# Altium footprint library PcbLib_ICs.PcbLib: 9 footprints
Each footprint in its own frame and in the unit in brackets; x right, y up, seen from the top. Pads: shape width x height; smd on the part's side, far side on the other; paste and mask are expansions set on the pad; w line width, h text height; cw(c..) or ccw(c..) is an arc to the next point about the centre after c.
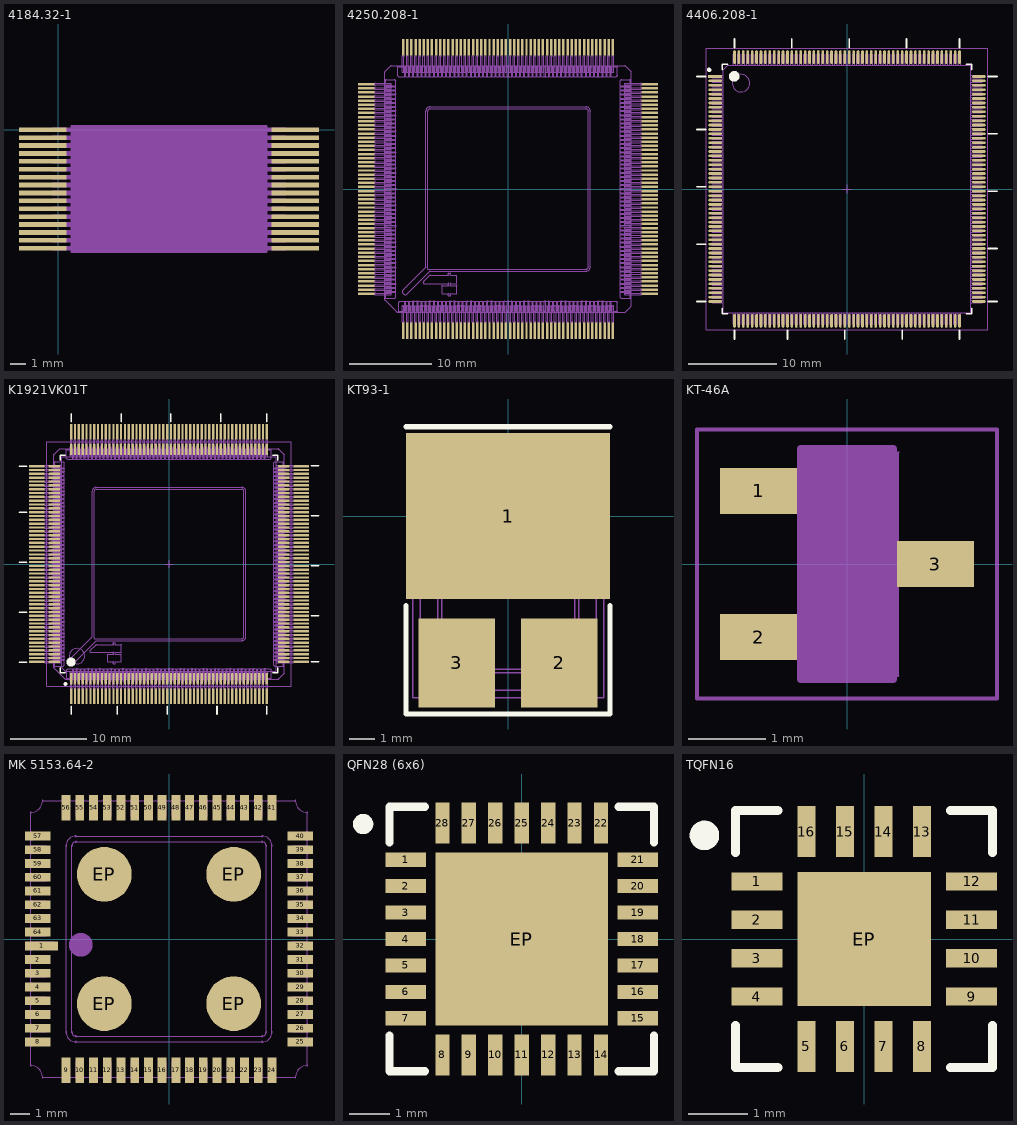
[diagram p0: the footprints below, top view; thin cyan lines are the x and y axes]

## 4184.32-1 [mm]
height 2.1
pads (32):
  rect 3x0.3 smd: 1(-1,0) 2(-1,-0.5) 3(-1,-1) 4(-1,-1.5) 5(-1,-2) 6(-1,-2.5) 7(-1,-3) 8(-1,-3.5) 9(-1,-4) 10(-1,-4.5) 11(-1,-5) 12(-1,-5.5) 13(-1,-6) 14(-1,-6.5) 15(-1,-7) 16(-1,-7.5) 17(15,-7.5) 18(15,-7) 19(15,-6.5) 20(15,-6) 21(15,-5.5) 22(15,-5) 23(15,-4.5) 24(15,-4) 25(15,-3.5) 26(15,-3) 27(15,-2.5) 28(15,-2) 29(15,-1.5) 30(15,-1) 31(15,-0.5) 32(15,0)
Mechanical 3:
  drawing of 134 lines, arcs and shapes, not listed
  text ".Designator" at 2.75,-4.75 h3
Mechanical 4:
  region: 0.8,-7.75 13.2,-7.75 13.2,0.25 0.8,0.25
  region: -0.4,-7.6 -0.4,-7.4 0.8,-7.4 0.8,-7.6
  region: -0.4,-7.1 -0.4,-6.9 0.8,-6.9 0.8,-7.1
  region: -0.4,-6.1 -0.4,-5.9 0.8,-5.9 0.8,-6.1
  region: -0.4,-6.6 -0.4,-6.4 0.8,-6.4 0.8,-6.6
  region: -0.4,-4.6 -0.4,-4.4 0.8,-4.4 0.8,-4.6
  region: -0.4,-4.1 -0.4,-3.9 0.8,-3.9 0.8,-4.1
  region: -0.4,-5.1 -0.4,-4.9 0.8,-4.9 0.8,-5.1
  region: -0.4,-5.6 -0.4,-5.4 0.8,-5.4 0.8,-5.6
  region: -0.4,-3.6 -0.4,-3.4 0.8,-3.4 0.8,-3.6
  region: -0.4,-3.1 -0.4,-2.9 0.8,-2.9 0.8,-3.1
  region: -0.4,-2.1 -0.4,-1.9 0.8,-1.9 0.8,-2.1
  region: -0.4,-2.6 -0.4,-2.4 0.8,-2.4 0.8,-2.6
  region: -0.4,-0.6 -0.4,-0.4 0.8,-0.4 0.8,-0.6
  region: -0.4,-0.1 -0.4,0.1 0.8,0.1 0.8,-0.1
  region: -0.4,-1.1 -0.4,-0.9 0.8,-0.9 0.8,-1.1
  region: -0.4,-1.6 -0.4,-1.4 0.8,-1.4 0.8,-1.6
  region: 13.2,-3.6 13.2,-3.4 14.4,-3.4 14.4,-3.6
  region: 13.2,-3.1 13.2,-2.9 14.4,-2.9 14.4,-3.1
  region: 13.2,-2.1 13.2,-1.9 14.4,-1.9 14.4,-2.1
  region: 13.2,-2.6 13.2,-2.4 14.4,-2.4 14.4,-2.6
  region: 13.2,-0.6 13.2,-0.4 14.4,-0.4 14.4,-0.6
  region: 13.2,-0.1 13.2,0.1 14.4,0.1 14.4,-0.1
  region: 13.2,-1.1 13.2,-0.9 14.4,-0.9 14.4,-1.1
  region: 13.2,-1.6 13.2,-1.4 14.4,-1.4 14.4,-1.6
  region: 13.2,-5.6 13.2,-5.4 14.4,-5.4 14.4,-5.6
  region: 13.2,-5.1 13.2,-4.9 14.4,-4.9 14.4,-5.1
  region: 13.2,-4.1 13.2,-3.9 14.4,-3.9 14.4,-4.1
  region: 13.2,-4.6 13.2,-4.4 14.4,-4.4 14.4,-4.6
  region: 13.2,-6.6 13.2,-6.4 14.4,-6.4 14.4,-6.6
  region: 13.2,-6.1 13.2,-5.9 14.4,-5.9 14.4,-6.1
  region: 13.2,-7.1 13.2,-6.9 14.4,-6.9 14.4,-7.1
  region: 13.2,-7.6 13.2,-7.4 14.4,-7.4 14.4,-7.6

## 4250.208-1 [mm]
pads (208):
  rect 0.3x2 smd: 1(-12.75,-17.25) 2(-12.25,-17.25) 3(-11.75,-17.25) 4(-11.25,-17.25) 5(-10.75,-17.25) 6(-10.25,-17.25) 7(-9.75,-17.25) 8(-9.25,-17.25) 9(-8.75,-17.25) 10(-8.25,-17.25) 11(-7.75,-17.25) 12(-7.25,-17.25) 13(-6.75,-17.25) 14(-6.25,-17.25) 15(-5.75,-17.25) 16(-5.25,-17.25) 17(-4.75,-17.25) 18(-4.25,-17.25) 19(-3.75,-17.25) 20(-3.25,-17.25) 21(-2.75,-17.25) 22(-2.25,-17.25) 23(-1.75,-17.25) 24(-1.25,-17.25) 25(-0.75,-17.25) 26(-0.25,-17.25) 27(0.25,-17.25) 28(0.75,-17.25) 29(1.25,-17.25) 30(1.75,-17.25) 31(2.25,-17.25) 32(2.75,-17.25) 33(3.25,-17.25) 34(3.75,-17.25) 35(4.25,-17.25) 36(4.75,-17.25) 37(5.25,-17.25) 38(5.75,-17.25) 39(6.25,-17.25) 40(6.75,-17.25) 41(7.25,-17.25) 42(7.75,-17.25) 43(8.25,-17.25) 44(8.75,-17.25) 45(9.25,-17.25) 46(9.75,-17.25) 47(10.25,-17.25) 48(10.75,-17.25) 49(11.25,-17.25) 50(11.75,-17.25) 51(12.25,-17.25) 52(12.75,-17.25) 105(12.75,17.25) 106(12.25,17.25) 107(11.75,17.25) 108(11.25,17.25) 109(10.75,17.25) 110(10.25,17.25) 111(9.75,17.25) 112(9.25,17.25) 113(8.75,17.25) 114(8.25,17.25) 115(7.75,17.25) 116(7.25,17.25) 117(6.75,17.25) 118(6.25,17.25) 119(5.75,17.25) 120(5.25,17.25) 121(4.75,17.25) 122(4.25,17.25) 123(3.75,17.25) 124(3.25,17.25) 125(2.75,17.25) 126(2.25,17.25) 127(1.75,17.25) 128(1.25,17.25) 129(0.75,17.25) 130(0.25,17.25) 131(-0.25,17.25) 132(-0.75,17.25) 133(-1.25,17.25) 134(-1.75,17.25) 135(-2.25,17.25) 136(-2.75,17.25) 137(-3.25,17.25) 138(-3.75,17.25) 139(-4.25,17.25) 140(-4.75,17.25) 141(-5.25,17.25) 142(-5.75,17.25) 143(-6.25,17.25) 144(-6.75,17.25) 145(-7.25,17.25) 146(-7.75,17.25) 147(-8.25,17.25) 148(-8.75,17.25) 149(-9.25,17.25) 150(-9.75,17.25) 151(-10.25,17.25) 152(-10.75,17.25) 153(-11.25,17.25) 154(-11.75,17.25) 155(-12.25,17.25) 156(-12.75,17.25)
  rect 2x0.3 smd: 53(17.25,-12.75) 54(17.25,-12.25) 55(17.25,-11.75) 56(17.25,-11.25) 57(17.25,-10.75) 58(17.25,-10.25) 59(17.25,-9.75) 60(17.25,-9.25) 61(17.25,-8.75) 62(17.25,-8.25) 63(17.25,-7.75) 64(17.25,-7.25) 65(17.25,-6.75) 66(17.25,-6.25) 67(17.25,-5.75) 68(17.25,-5.25) 69(17.25,-4.75) 70(17.25,-4.25) 71(17.25,-3.75) 72(17.25,-3.25) 73(17.25,-2.75) 74(17.25,-2.25) 75(17.25,-1.75) 76(17.25,-1.25) 77(17.25,-0.75) 78(17.25,-0.25) 79(17.25,0.25) 80(17.25,0.75) 81(17.25,1.25) 82(17.25,1.75) 83(17.25,2.25) 84(17.25,2.75) 85(17.25,3.25) 86(17.25,3.75) 87(17.25,4.25) 88(17.25,4.75) 89(17.25,5.25) 90(17.25,5.75) 91(17.25,6.25) 92(17.25,6.75) 93(17.25,7.25) 94(17.25,7.75) 95(17.25,8.25) 96(17.25,8.75) 97(17.25,9.25) 98(17.25,9.75) 99(17.25,10.25) 100(17.25,10.75) 101(17.25,11.25) 102(17.25,11.75) 103(17.25,12.25) 104(17.25,12.75) 157(-17.25,12.75) 158(-17.25,12.25) 159(-17.25,11.75) 160(-17.25,11.25) 161(-17.25,10.75) 162(-17.25,10.25) 163(-17.25,9.75) 164(-17.25,9.25) 165(-17.25,8.75) 166(-17.25,8.25) 167(-17.25,7.75) 168(-17.25,7.25) 169(-17.25,6.75) 170(-17.25,6.25) 171(-17.25,5.75) 172(-17.25,5.25) 173(-17.25,4.75) 174(-17.25,4.25) 175(-17.25,3.75) 176(-17.25,3.25) 177(-17.25,2.75) 178(-17.25,2.25) 179(-17.25,1.75) 180(-17.25,1.25) 181(-17.25,0.75) 182(-17.25,0.25) 183(-17.25,-0.25) 184(-17.25,-0.75) 185(-17.25,-1.25) 186(-17.25,-1.75) 187(-17.25,-2.25) 188(-17.25,-2.75) 189(-17.25,-3.25) 190(-17.25,-3.75) 191(-17.25,-4.25) 192(-17.25,-4.75) 193(-17.25,-5.25) 194(-17.25,-5.75) 195(-17.25,-6.25) 196(-17.25,-6.75) 197(-17.25,-7.25) 198(-17.25,-7.75) 199(-17.25,-8.25) 200(-17.25,-8.75) 201(-17.25,-9.25) 202(-17.25,-9.75) 203(-17.25,-10.25) 204(-17.25,-10.75) 205(-17.25,-11.25) 206(-17.25,-11.75) 207(-17.25,-12.25) 208(-17.25,-12.75)
Mechanical 3:
  drawing of 7029 lines, arcs and shapes, not listed

## 4406.208-1 [mm] "SQFP, 208-Leads, Body 28.00x28.00mm, Pitch 0.50mm, IPC Medium Density"
height 4.1
pads (208):
  rect 1.55x0.3 smd: 1(-14.95,12.75)
  oval 1.55x0.3 smd: 2(-14.95,12.25) 3(-14.95,11.75) 4(-14.95,11.25) 5(-14.95,10.75) 6(-14.95,10.25) 7(-14.95,9.75) 8(-14.95,9.25) 9(-14.95,8.75) 10(-14.95,8.25) 11(-14.95,7.75) 12(-14.95,7.25) 13(-14.95,6.75) 14(-14.95,6.25) 15(-14.95,5.75) 16(-14.95,5.25) 17(-14.95,4.75) 18(-14.95,4.25) 19(-14.95,3.75) 20(-14.95,3.25) 21(-14.95,2.75) 22(-14.95,2.25) 23(-14.95,1.75) 24(-14.95,1.25) 25(-14.95,0.75) 26(-14.95,0.25) 27(-14.95,-0.25) 28(-14.95,-0.75) 29(-14.95,-1.25) 30(-14.95,-1.75) 31(-14.95,-2.25) 32(-14.95,-2.75) 33(-14.95,-3.25) 34(-14.95,-3.75) 35(-14.95,-4.25) 36(-14.95,-4.75) 37(-14.95,-5.25) 38(-14.95,-5.75) 39(-14.95,-6.25) 40(-14.95,-6.75) 41(-14.95,-7.25) 42(-14.95,-7.75) 43(-14.95,-8.25) 44(-14.95,-8.75) 45(-14.95,-9.25) 46(-14.95,-9.75) 47(-14.95,-10.25) 48(-14.95,-10.75) 49(-14.95,-11.25) 50(-14.95,-11.75) 51(-14.95,-12.25) 52(-14.95,-12.75) 105(14.95,-12.75) 106(14.95,-12.25) 107(14.95,-11.75) 108(14.95,-11.25) 109(14.95,-10.75) 110(14.95,-10.25) 111(14.95,-9.75) 112(14.95,-9.25) 113(14.95,-8.75) 114(14.95,-8.25) 115(14.95,-7.75) 116(14.95,-7.25) 117(14.95,-6.75) 118(14.95,-6.25) 119(14.95,-5.75) 120(14.95,-5.25) 121(14.95,-4.75) 122(14.95,-4.25) 123(14.95,-3.75) 124(14.95,-3.25) 125(14.95,-2.75) 126(14.95,-2.25) 127(14.95,-1.75) 128(14.95,-1.25) 129(14.95,-0.75) 130(14.95,-0.25) 131(14.95,0.25) 132(14.95,0.75) 133(14.95,1.25) 134(14.95,1.75) 135(14.95,2.25) 136(14.95,2.75) 137(14.95,3.25) 138(14.95,3.75) 139(14.95,4.25) 140(14.95,4.75) 141(14.95,5.25) 142(14.95,5.75) 143(14.95,6.25) 144(14.95,6.75) 145(14.95,7.25) 146(14.95,7.75) 147(14.95,8.25) 148(14.95,8.75) 149(14.95,9.25) 150(14.95,9.75) 151(14.95,10.25) 152(14.95,10.75) 153(14.95,11.25) 154(14.95,11.75) 155(14.95,12.25) 156(14.95,12.75)
  oval 0.3x1.55 smd: 53(-12.75,-14.95) 54(-12.25,-14.95) 55(-11.75,-14.95) 56(-11.25,-14.95) 57(-10.75,-14.95) 58(-10.25,-14.95) 59(-9.75,-14.95) 60(-9.25,-14.95) 61(-8.75,-14.95) 62(-8.25,-14.95) 63(-7.75,-14.95) 64(-7.25,-14.95) 65(-6.75,-14.95) 66(-6.25,-14.95) 67(-5.75,-14.95) 68(-5.25,-14.95) 69(-4.75,-14.95) 70(-4.25,-14.95) 71(-3.75,-14.95) 72(-3.25,-14.95) 73(-2.75,-14.95) 74(-2.25,-14.95) 75(-1.75,-14.95) 76(-1.25,-14.95) 77(-0.75,-14.95) 78(-0.25,-14.95) 79(0.25,-14.95) 80(0.75,-14.95) 81(1.25,-14.95) 82(1.75,-14.95) 83(2.25,-14.95) 84(2.75,-14.95) 85(3.25,-14.95) 86(3.75,-14.95) 87(4.25,-14.95) 88(4.75,-14.95) 89(5.25,-14.95) 90(5.75,-14.95) 91(6.25,-14.95) 92(6.75,-14.95) 93(7.25,-14.95) 94(7.75,-14.95) 95(8.25,-14.95) 96(8.75,-14.95) 97(9.25,-14.95) 98(9.75,-14.95) 99(10.25,-14.95) 100(10.75,-14.95) 101(11.25,-14.95) 102(11.75,-14.95) 103(12.25,-14.95) 104(12.75,-14.95) 157(12.75,14.95) 158(12.25,14.95) 159(11.75,14.95) 160(11.25,14.95) 161(10.75,14.95) 162(10.25,14.95) 163(9.75,14.95) 164(9.25,14.95) 165(8.75,14.95) 166(8.25,14.95) 167(7.75,14.95) 168(7.25,14.95) 169(6.75,14.95) 170(6.25,14.95) 171(5.75,14.95) 172(5.25,14.95) 173(4.75,14.95) 174(4.25,14.95) 175(3.75,14.95) 176(3.25,14.95) 177(2.75,14.95) 178(2.25,14.95) 179(1.75,14.95) 180(1.25,14.95) 181(0.75,14.95) 182(0.25,14.95) 183(-0.25,14.95) 184(-0.75,14.95) 185(-1.25,14.95) 186(-1.75,14.95) 187(-2.25,14.95) 188(-2.75,14.95) 189(-3.25,14.95) 190(-3.75,14.95) 191(-4.25,14.95) 192(-4.75,14.95) 193(-5.25,14.95) 194(-5.75,14.95) 195(-6.25,14.95) 196(-6.75,14.95) 197(-7.25,14.95) 198(-7.75,14.95) 199(-8.25,14.95) 200(-8.75,14.95) 201(-9.25,14.95) 202(-9.75,14.95) 203(-10.25,14.95) 204(-10.75,14.95) 205(-11.25,14.95) 206(-11.75,14.95) 207(-12.25,14.95) 208(-12.75,14.95)
Top Overlay:
  circle w0.6: c-12.775,12.775 r0.3
  circle w0.25: c-15.625,13.5 r0.125
  lines w0.2: -17,-12.75 -16,-12.75 ; -17,-6.25 -16,-6.25 ; -17,0.25 -16,0.25 ; -17,6.75 -16,6.75 ; -17,12.75 -16,12.75 ; -14.15,-13.55 -14.15,-14.15 -13.525,-14.15 ; -14.15,13.525 -14.15,14.15 -13.55,14.15 ; -12.75,-17 -12.75,-16 ; -12.75,16 -12.75,17 ; -6.75,-17 -6.75,-16 ; -6.25,16 -6.25,17 ; -0.25,-17 -0.25,-16 ; 0.25,16 0.25,17 ; 6.25,-17 6.25,-16 ; 6.75,16 6.75,17 ; 12.75,-17 12.75,-16 ; 12.75,16 12.75,17 ; 13.525,14.15 14.15,14.15 14.15,13.55 ; 13.55,-14.15 14.15,-14.15 14.15,-13.525 ; 16,-12.75 17,-12.75 ; 16,-6.75 17,-6.75 ; 16,-0.25 17,-0.25 ; 16,6.25 17,6.25 ; 16,12.75 17,12.75
Mechanical 13:
  drawing of 5622 lines, arcs and shapes, not listed
  text ".Designator" at -3.443,-0.467 h2
Mechanical 15:
  lines w0.05: -15.95,-15.95 15.95,-15.95 15.95,15.95 -15.95,15.95 -15.95,-15.95
  lines w0.1: -0.5,0 0.5,0 ; 0,-0.5 0,0.5
3D body "SQFP50P3060X3060X410-208N.step": height 4.1, standoff 0, extent -15.3,-15.3 15.3,15.3

## K1921VK01T [mm] "SQFP, 208-Leads, Body 28.00x28.00mm, Pitch 0.50mm, IPC Medium Density"
height 4.1
pads (416):
  rect 0.3x2 smd: 1(-12.75,-17.25) 2(-12.25,-17.25) 3(-11.75,-17.25) 4(-11.25,-17.25) 5(-10.75,-17.25) 6(-10.25,-17.25) 7(-9.75,-17.25) 8(-9.25,-17.25) 9(-8.75,-17.25) 10(-8.25,-17.25) 11(-7.75,-17.25) 12(-7.25,-17.25) 13(-6.75,-17.25) 14(-6.25,-17.25) 15(-5.75,-17.25) 16(-5.25,-17.25) 17(-4.75,-17.25) 18(-4.25,-17.25) 19(-3.75,-17.25) 20(-3.25,-17.25) 21(-2.75,-17.25) 22(-2.25,-17.25) 23(-1.75,-17.25) 24(-1.25,-17.25) 25(-0.75,-17.25) 26(-0.25,-17.25) 27(0.25,-17.25) 28(0.75,-17.25) 29(1.25,-17.25) 30(1.75,-17.25) 31(2.25,-17.25) 32(2.75,-17.25) 33(3.25,-17.25) 34(3.75,-17.25) 35(4.25,-17.25) 36(4.75,-17.25) 37(5.25,-17.25) 38(5.75,-17.25) 39(6.25,-17.25) 40(6.75,-17.25) 41(7.25,-17.25) 42(7.75,-17.25) 43(8.25,-17.25) 44(8.75,-17.25) 45(9.25,-17.25) 46(9.75,-17.25) 47(10.25,-17.25) 48(10.75,-17.25) 49(11.25,-17.25) 50(11.75,-17.25) 51(12.25,-17.25) 52(12.75,-17.25) 105(12.75,17.25) 106(12.25,17.25) 107(11.75,17.25) 108(11.25,17.25) 109(10.75,17.25) 110(10.25,17.25) 111(9.75,17.25) 112(9.25,17.25) 113(8.75,17.25) 114(8.25,17.25) 115(7.75,17.25) 116(7.25,17.25) 117(6.75,17.25) 118(6.25,17.25) 119(5.75,17.25) 120(5.25,17.25) 121(4.75,17.25) 122(4.25,17.25) 123(3.75,17.25) 124(3.25,17.25) 125(2.75,17.25) 126(2.25,17.25) 127(1.75,17.25) 128(1.25,17.25) 129(0.75,17.25) 130(0.25,17.25) 131(-0.25,17.25) 132(-0.75,17.25) 133(-1.25,17.25) 134(-1.75,17.25) 135(-2.25,17.25) 136(-2.75,17.25) 137(-3.25,17.25) 138(-3.75,17.25) 139(-4.25,17.25) 140(-4.75,17.25) 141(-5.25,17.25) 142(-5.75,17.25) 143(-6.25,17.25) 144(-6.75,17.25) 145(-7.25,17.25) 146(-7.75,17.25) 147(-8.25,17.25) 148(-8.75,17.25) 149(-9.25,17.25) 150(-9.75,17.25) 151(-10.25,17.25) 152(-10.75,17.25) 153(-11.25,17.25) 154(-11.75,17.25) 155(-12.25,17.25) 156(-12.75,17.25)
  rect 0.3x1.55 smd: 1(-12.75,-14.95)
  oval 0.3x1.55 smd: 2(-12.25,-14.95) 3(-11.75,-14.95) 4(-11.25,-14.95) 5(-10.75,-14.95) 6(-10.25,-14.95) 7(-9.75,-14.95) 8(-9.25,-14.95) 9(-8.75,-14.95) 10(-8.25,-14.95) 11(-7.75,-14.95) 12(-7.25,-14.95) 13(-6.75,-14.95) 14(-6.25,-14.95) 15(-5.75,-14.95) 16(-5.25,-14.95) 17(-4.75,-14.95) 18(-4.25,-14.95) 19(-3.75,-14.95) 20(-3.25,-14.95) 21(-2.75,-14.95) 22(-2.25,-14.95) 23(-1.75,-14.95) 24(-1.25,-14.95) 25(-0.75,-14.95) 26(-0.25,-14.95) 27(0.25,-14.95) 28(0.75,-14.95) 29(1.25,-14.95) 30(1.75,-14.95) 31(2.25,-14.95) 32(2.75,-14.95) 33(3.25,-14.95) 34(3.75,-14.95) 35(4.25,-14.95) 36(4.75,-14.95) 37(5.25,-14.95) 38(5.75,-14.95) 39(6.25,-14.95) 40(6.75,-14.95) 41(7.25,-14.95) 42(7.75,-14.95) 43(8.25,-14.95) 44(8.75,-14.95) 45(9.25,-14.95) 46(9.75,-14.95) 47(10.25,-14.95) 48(10.75,-14.95) 49(11.25,-14.95) 50(11.75,-14.95) 51(12.25,-14.95) 52(12.75,-14.95) 105(12.75,14.95) 106(12.25,14.95) 107(11.75,14.95) 108(11.25,14.95) 109(10.75,14.95) 110(10.25,14.95) 111(9.75,14.95) 112(9.25,14.95) 113(8.75,14.95) 114(8.25,14.95) 115(7.75,14.95) 116(7.25,14.95) 117(6.75,14.95) 118(6.25,14.95) 119(5.75,14.95) 120(5.25,14.95) 121(4.75,14.95) 122(4.25,14.95) 123(3.75,14.95) 124(3.25,14.95) 125(2.75,14.95) 126(2.25,14.95) 127(1.75,14.95) 128(1.25,14.95) 129(0.75,14.95) 130(0.25,14.95) 131(-0.25,14.95) 132(-0.75,14.95) 133(-1.25,14.95) 134(-1.75,14.95) 135(-2.25,14.95) 136(-2.75,14.95) 137(-3.25,14.95) 138(-3.75,14.95) 139(-4.25,14.95) 140(-4.75,14.95) 141(-5.25,14.95) 142(-5.75,14.95) 143(-6.25,14.95) 144(-6.75,14.95) 145(-7.25,14.95) 146(-7.75,14.95) 147(-8.25,14.95) 148(-8.75,14.95) 149(-9.25,14.95) 150(-9.75,14.95) 151(-10.25,14.95) 152(-10.75,14.95) 153(-11.25,14.95) 154(-11.75,14.95) 155(-12.25,14.95) 156(-12.75,14.95)
  oval 1.55x0.3 smd: 53(14.95,-12.75) 54(14.95,-12.25) 55(14.95,-11.75) 56(14.95,-11.25) 57(14.95,-10.75) 58(14.95,-10.25) 59(14.95,-9.75) 60(14.95,-9.25) 61(14.95,-8.75) 62(14.95,-8.25) 63(14.95,-7.75) 64(14.95,-7.25) 65(14.95,-6.75) 66(14.95,-6.25) 67(14.95,-5.75) 68(14.95,-5.25) 69(14.95,-4.75) 70(14.95,-4.25) 71(14.95,-3.75) 72(14.95,-3.25) 73(14.95,-2.75) 74(14.95,-2.25) 75(14.95,-1.75) 76(14.95,-1.25) 77(14.95,-0.75) 78(14.95,-0.25) 79(14.95,0.25) 80(14.95,0.75) 81(14.95,1.25) 82(14.95,1.75) 83(14.95,2.25) 84(14.95,2.75) 85(14.95,3.25) 86(14.95,3.75) 87(14.95,4.25) 88(14.95,4.75) 89(14.95,5.25) 90(14.95,5.75) 91(14.95,6.25) 92(14.95,6.75) 93(14.95,7.25) 94(14.95,7.75) 95(14.95,8.25) 96(14.95,8.75) 97(14.95,9.25) 98(14.95,9.75) 99(14.95,10.25) 100(14.95,10.75) 101(14.95,11.25) 102(14.95,11.75) 103(14.95,12.25) 104(14.95,12.75) 157(-14.95,12.75) 158(-14.95,12.25) 159(-14.95,11.75) 160(-14.95,11.25) 161(-14.95,10.75) 162(-14.95,10.25) 163(-14.95,9.75) 164(-14.95,9.25) 165(-14.95,8.75) 166(-14.95,8.25) 167(-14.95,7.75) 168(-14.95,7.25) 169(-14.95,6.75) 170(-14.95,6.25) 171(-14.95,5.75) 172(-14.95,5.25) 173(-14.95,4.75) 174(-14.95,4.25) 175(-14.95,3.75) 176(-14.95,3.25) 177(-14.95,2.75) 178(-14.95,2.25) 179(-14.95,1.75) 180(-14.95,1.25) 181(-14.95,0.75) 182(-14.95,0.25) 183(-14.95,-0.25) 184(-14.95,-0.75) 185(-14.95,-1.25) 186(-14.95,-1.75) 187(-14.95,-2.25) 188(-14.95,-2.75) 189(-14.95,-3.25) 190(-14.95,-3.75) 191(-14.95,-4.25) 192(-14.95,-4.75) 193(-14.95,-5.25) 194(-14.95,-5.75) 195(-14.95,-6.25) 196(-14.95,-6.75) 197(-14.95,-7.25) 198(-14.95,-7.75) 199(-14.95,-8.25) 200(-14.95,-8.75) 201(-14.95,-9.25) 202(-14.95,-9.75) 203(-14.95,-10.25) 204(-14.95,-10.75) 205(-14.95,-11.25) 206(-14.95,-11.75) 207(-14.95,-12.25) 208(-14.95,-12.75)
  rect 2x0.3 smd: 53(17.25,-12.75) 54(17.25,-12.25) 55(17.25,-11.75) 56(17.25,-11.25) 57(17.25,-10.75) 58(17.25,-10.25) 59(17.25,-9.75) 60(17.25,-9.25) 61(17.25,-8.75) 62(17.25,-8.25) 63(17.25,-7.75) 64(17.25,-7.25) 65(17.25,-6.75) 66(17.25,-6.25) 67(17.25,-5.75) 68(17.25,-5.25) 69(17.25,-4.75) 70(17.25,-4.25) 71(17.25,-3.75) 72(17.25,-3.25) 73(17.25,-2.75) 74(17.25,-2.25) 75(17.25,-1.75) 76(17.25,-1.25) 77(17.25,-0.75) 78(17.25,-0.25) 79(17.25,0.25) 80(17.25,0.75) 81(17.25,1.25) 82(17.25,1.75) 83(17.25,2.25) 84(17.25,2.75) 85(17.25,3.25) 86(17.25,3.75) 87(17.25,4.25) 88(17.25,4.75) 89(17.25,5.25) 90(17.25,5.75) 91(17.25,6.25) 92(17.25,6.75) 93(17.25,7.25) 94(17.25,7.75) 95(17.25,8.25) 96(17.25,8.75) 97(17.25,9.25) 98(17.25,9.75) 99(17.25,10.25) 100(17.25,10.75) 101(17.25,11.25) 102(17.25,11.75) 103(17.25,12.25) 104(17.25,12.75) 157(-17.25,12.75) 158(-17.25,12.25) 159(-17.25,11.75) 160(-17.25,11.25) 161(-17.25,10.75) 162(-17.25,10.25) 163(-17.25,9.75) 164(-17.25,9.25) 165(-17.25,8.75) 166(-17.25,8.25) 167(-17.25,7.75) 168(-17.25,7.25) 169(-17.25,6.75) 170(-17.25,6.25) 171(-17.25,5.75) 172(-17.25,5.25) 173(-17.25,4.75) 174(-17.25,4.25) 175(-17.25,3.75) 176(-17.25,3.25) 177(-17.25,2.75) 178(-17.25,2.25) 179(-17.25,1.75) 180(-17.25,1.25) 181(-17.25,0.75) 182(-17.25,0.25) 183(-17.25,-0.25) 184(-17.25,-0.75) 185(-17.25,-1.25) 186(-17.25,-1.75) 187(-17.25,-2.25) 188(-17.25,-2.75) 189(-17.25,-3.25) 190(-17.25,-3.75) 191(-17.25,-4.25) 192(-17.25,-4.75) 193(-17.25,-5.25) 194(-17.25,-5.75) 195(-17.25,-6.25) 196(-17.25,-6.75) 197(-17.25,-7.25) 198(-17.25,-7.75) 199(-17.25,-8.25) 200(-17.25,-8.75) 201(-17.25,-9.25) 202(-17.25,-9.75) 203(-17.25,-10.25) 204(-17.25,-10.75) 205(-17.25,-11.25) 206(-17.25,-11.75) 207(-17.25,-12.25) 208(-17.25,-12.75)
Top Overlay:
  circle w0.6: c-12.775,-12.775 r0.3
  circle w0.25: c-13.5,-15.625 r0.125
  lines w0.2: -19.537,-12.775 -18.538,-12.775 ; -19.537,-6.275 -18.538,-6.275 ; -19.537,0.225 -18.538,0.225 ; -19.537,6.725 -18.538,6.725 ; -19.537,12.725 -18.538,12.725 ; -14.15,-13.55 -14.15,-14.15 -13.525,-14.15 ; -14.15,13.525 -14.15,14.15 -13.55,14.15 ; -12.756,18.55 -12.756,19.55 ; -12.75,-19.55 -12.75,-18.55 ; -6.75,-19.55 -6.75,-18.55 ; -6.256,18.55 -6.256,19.55 ; -0.25,-19.55 -0.25,-18.55 ; 0.244,18.55 0.244,19.55 ; 6.25,-19.55 6.25,-18.55 ; 6.744,18.55 6.744,19.55 ; 12.744,18.55 12.744,19.55 ; 12.75,-19.55 12.75,-18.55 ; 13.525,14.15 14.15,14.15 14.15,13.55 ; 13.55,-14.15 14.15,-14.15 14.15,-13.525 ; 18.525,-12.725 19.525,-12.725 ; 18.525,-6.725 19.525,-6.725 ; 18.525,-0.225 19.525,-0.225 ; 18.525,6.275 19.525,6.275 ; 18.525,12.775 19.525,12.775
Mechanical 3:
  drawing of 7029 lines, arcs and shapes, not listed
Mechanical 13:
  drawing of 5622 lines, arcs and shapes, not listed
  text ".Designator" at -3.443,-0.467 h2
Mechanical 15:
  lines w0.05: -15.95,-15.95 -15.95,15.95 15.95,15.95 15.95,-15.95 -15.95,-15.95
  lines w0.1: -0.5,0 0.5,0 ; 0,-0.5 0,0.5
3D body "SQFP50P3060X3060X410-208N.step": height 4.1, standoff 0, extent -15.3,-15.3 15.3,15.3

## KT93-1 [mm]
pads (3):
  rect 8x6.5 smd paste-10: 1(0,0)
  rect 3x3.5 smd paste-10: 2(2,-5.75) 3(-2,-5.75)
Top Overlay:
  lines w0.2: -4,-3.5 -4,-7.75 4,-7.75 4,-3.5 ; -4,3.5 4,3.5
Top Paste:
  drawing of 162 lines, arcs and shapes, not listed
Mechanical 13:
  lines w0.05: -3.736,-7.122 3.75,-7.122 3.75,2.925 -3.736,2.925 -3.736,-7.122 ; -3.441,-6.629 ccw(c-3.244,-6.629) -3.244,-6.826 3.257,-6.826 ccw(c3.257,-6.629) 3.454,-6.629 3.454,2.432 ccw(c3.257,2.432) 3.257,2.629 -3.244,2.629 ccw(c-3.244,2.432) -3.441,2.432 -3.441,-6.629 ; -2.751,-5.94 ccw(c-2.554,-5.94) -2.554,-6.137 2.568,-6.137 ccw(c2.568,-5.94) 2.765,-5.94 2.765,1.743 ccw(c2.568,1.743) 2.568,1.94 -2.554,1.94 ccw(c-2.554,1.743) -2.751,1.743 -2.751,-5.94 ; -2.603,-5.842 ccw(c-2.455,-5.841) -2.455,-5.989 2.469,-5.989 ccw(c2.469,-5.841) 2.617,-5.841 2.617,1.645 ccw(c2.469,1.645) 2.469,1.792 -2.455,1.792 ccw(c-2.455,1.644) -2.603,1.644 -2.603,-5.841
  text ".Designator" at -3.443,-2.967 h2
3D body "KT-93-1 (new).STEP": height 3, standoff 0, extent -3.75,-7.35 3.75,2.75

## KT-46A [mm]
height 1.12
pads (3):
  rect 1x0.6 smd: 1(-1.15,0.95) 2(-1.15,-0.95) 3(1.15,0)
Mechanical 3:
  drawing of 484 lines, arcs and shapes, not listed
  text ".Designator" at 0.4,-0.9 h1
Mechanical 4:
  rectangle: -0.62,-1.456 0.671,1.458
  rectangle: -1.225,-1.175 -0.625,-0.73
  rectangle: -1.225,0.731 -0.625,1.176
  rectangle: 0.672,-0.222 1.251,0.223
Mechanical 13:
  lines w0.1: -0.6,-1.5 -0.6,1.5 0.6,1.5 0.6,-1.5 -0.6,-1.5
Mechanical 15:
  lines w0.05: -1.95,-1.75 -1.95,1.75 1.95,1.75 1.95,-1.75 -1.95,-1.75
  lines w0.1: -0.5,0 0.5,0 ; 0,-0.5 0,0.5
3D body "SW3dPS-3-lead sot23-3.STEP": height 1.02, standoff 0, extent -1.241,-1.473 1.267,1.474

## MK 5153.64-2 [mm]
pads (68):
  rect 1.7x0.45 smd: 1(-6.5,-0.35)
  rect 1.3x0.45 smd: 2(-6.7,-1.05) 3(-6.7,-1.75) 4(-6.7,-2.45) 5(-6.7,-3.15) 6(-6.7,-3.85) 7(-6.7,-4.55) 8(-6.7,-5.25) 25(6.7,-5.25) 26(6.7,-4.55) 27(6.7,-3.85) 28(6.7,-3.15) 29(6.7,-2.45) 30(6.7,-1.75) 31(6.7,-1.05) 32(6.7,-0.35) 33(6.7,0.35) 34(6.7,1.05) 35(6.7,1.75) 36(6.7,2.45) 37(6.7,3.15) 38(6.7,3.85) 39(6.7,4.55) 40(6.7,5.25) 57(-6.7,5.25) 58(-6.7,4.55) 59(-6.7,3.85) 60(-6.7,3.15) 61(-6.7,2.45) 62(-6.7,1.75) 63(-6.7,1.05) 64(-6.7,0.35)
  rect 0.45x1.3 smd: 9(-5.25,-6.7) 10(-4.55,-6.7) 11(-3.85,-6.7) 12(-3.15,-6.7) 13(-2.45,-6.7) 14(-1.75,-6.7) 15(-1.05,-6.7) 16(-0.35,-6.7) 17(0.35,-6.7) 18(1.05,-6.7) 19(1.75,-6.7) 20(2.45,-6.7) 21(3.15,-6.7) 22(3.85,-6.7) 23(4.55,-6.7) 24(5.25,-6.7) 41(5.25,6.7) 42(4.55,6.7) 43(3.85,6.7) 44(3.15,6.7) 45(2.45,6.7) 46(1.75,6.7) 47(1.05,6.7) 48(0.35,6.7) 49(-0.35,6.7) 50(-1.05,6.7) 51(-1.75,6.7) 52(-2.45,6.7) 53(-3.15,6.7) 54(-3.85,6.7) 55(-4.55,6.7) 56(-5.25,6.7)
  round 2.8 smd: EP(-3.3,-3.3) EP(-3.3,3.3) EP(3.3,-3.3) EP(3.3,3.3)
Mechanical 3:
  drawing of 529 lines, arcs and shapes, not listed
3D body "淌 5153.64-2.STEP": height 1.88, standoff 0, extent -6.9,-6.9 6.9,6.9

## QFN28 (6x6) [mm]
pads (29):
  rect 1x0.35 smd: 1(-2.85,1.95) 2(-2.85,1.3) 3(-2.85,0.65) 4(-2.85,0) 5(-2.85,-0.65) 6(-2.85,-1.3) 7(-2.85,-1.95) 15(2.85,-1.95) 16(2.85,-1.3) 17(2.85,-0.65) 18(2.85,0) 19(2.85,0.65) 20(2.85,1.3) 21(2.85,1.95)
  rect 0.35x1 smd: 8(-1.95,-2.85) 9(-1.3,-2.85) 10(-0.65,-2.85) 11(0,-2.85) 12(0.65,-2.85) 13(1.3,-2.85) 14(1.95,-2.85) 22(1.95,2.85) 23(1.3,2.85) 24(0.65,2.85) 25(0,2.85) 26(-0.65,2.85) 27(-1.3,2.85) 28(-1.95,2.85)
  rect 4.25x4.25 smd: EP(0,0)
Top Overlay:
  circle w0.25: c-3.9,2.825 r0.125
  lines w0.2: -3.25,-2.375 -3.25,-3.25 -2.375,-3.25 ; -3.25,2.375 -3.25,3.25 -2.375,3.25 ; 2.375,-3.25 3.25,-3.25 3.25,-2.375 ; 2.375,3.25 3.25,3.25 3.25,2.375
3D body: height 6.9, standoff -6.9, extent -5.8,-0.65 -5.8,-0.65
3D body "User Library-QFN 28-Pin 0_65mm Pitch.sldprt": height 1, standoff 0, extent -3.01,-3.01 3.01,3.01

## TQFN16 [mm]
pads (17):
  rect 0.86x0.306 smd paste+0 mask+0: 1(-1.814,0.975) 2(-1.814,0.325) 3(-1.814,-0.325) 4(-1.814,-0.975) 9(1.814,-0.975) 10(1.814,-0.325) 11(1.814,0.325) 12(1.814,0.975)
  rect 0.306x0.86 smd paste+0 mask+0: 5(-0.975,-1.814) 6(-0.325,-1.814) 7(0.325,-1.814) 8(0.975,-1.814) 13(0.975,1.814) 14(0.325,1.814) 15(-0.325,1.814) 16(-0.975,1.814)
  rect 2.261x2.261 smd paste+0 mask+0: EP(0,0)
Top Overlay:
  circle w0.25: c-2.7,1.75 r0.125
  lines w0.152: -2.172,-1.461 -2.172,-2.172 -1.461,-2.172 ; -2.172,1.461 -2.172,2.172 -1.461,2.172 ; 1.461,-2.172 2.172,-2.172 2.172,-1.461 ; 1.461,2.172 2.172,2.172 2.172,1.461
3D body: height 0.25, standoff 0, extent 0,0 0.254,0.254
3D body "21-0139I_T1644-4_MXM.step": height 0.81, standoff 0, extent -2.045,-2.045 2.045,2.045